# Altium footprint library Ale.PcbLib: 181 footprints (part 11 of 12)
Each footprint in its own frame and in the unit in brackets; x right, y up, seen from the top. Pads: shape width x height; smd on the part's side, far side on the other; paste and mask are expansions set on the pad; w line width, h text height; cw(c..) or ccw(c..) is an arc to the next point about the centre after c.
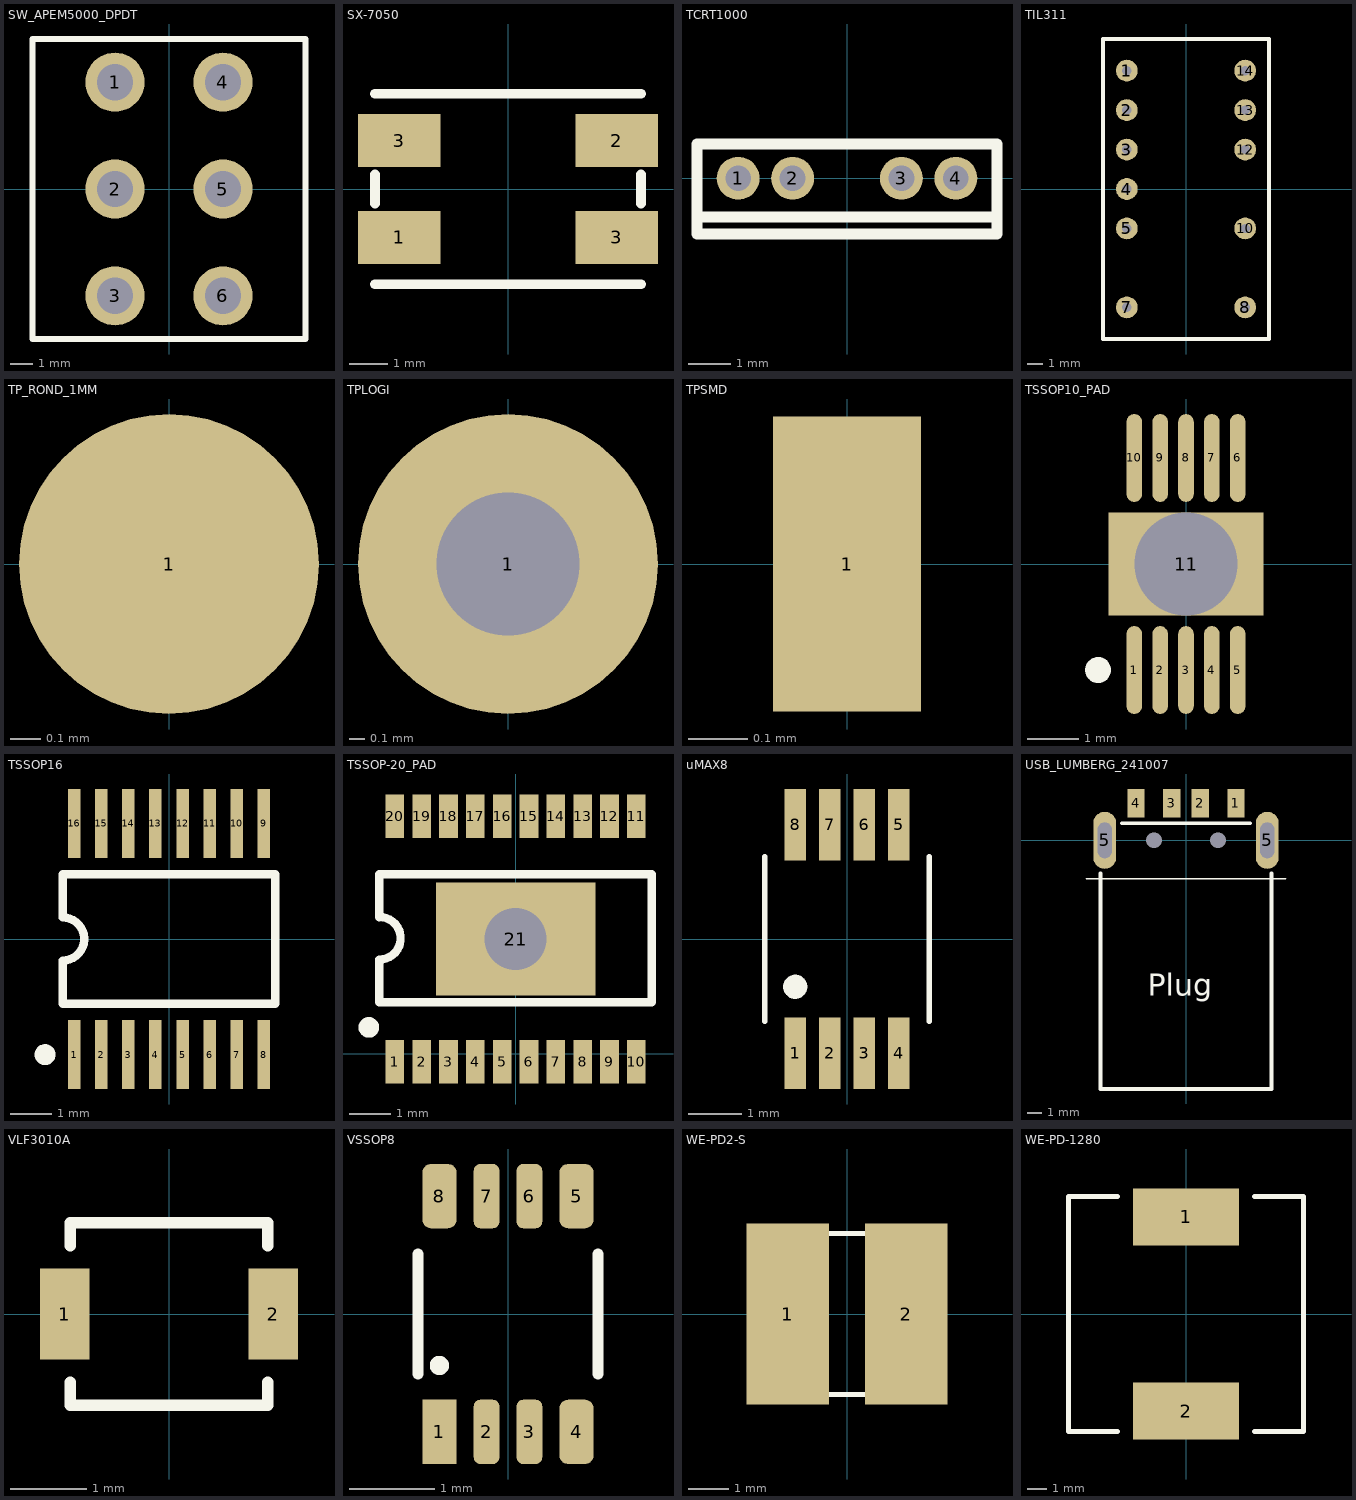
[diagram p10: the footprints below, top view; thin cyan lines are the x and y axes]

## SW_APEM5000_DPDT [mm] "APEM 5000 series Duap Pole, Dual Throw switches, 4.7 mm raster"
height 32.8
pads (6):
  round 2.6 hole 1.6: 1(-2.375,4.7) 2(-2.375,0) 3(-2.375,-4.7) 4(2.375,4.7) 5(2.375,0) 6(2.375,-4.7)
Top Overlay:
  lines w0.254: -6,-6.6 -6,6.6 6,6.6 6,-6.6 -6,-6.6
3D body: height 13.3, standoff 0, extent -6.127,-6.727 6.127,6.727
3D body: height 22.3, standoff 13.3, extent -3.174,-3.174 3.174,3.174
3D body: height 32.8, standoff 13.3, extent -1.499,-1.499 1.499,1.499

## SX-7050 [mil] "Siward SX-7050 SMD Crystal"
height 59.06
pads (4):
  rect 85x55 smd: 1(-112.5,-50) 2(112.5,50) 3(-112.5,50) 3(112.5,-50)
Top Overlay:
  lines w10: -137.5,-98.42 137.5,-98.42 ; -137.5,-15 -137.5,15 ; -137.5,98.42 137.5,98.42 ; 137.5,-15 137.5,15
3D body: height 59.06, standoff 0, extent -137.78,-98.41 137.78,98.41

## TCRT1000 [mm] "Reflective optical sensor with transistor output"
height 6.1
pads (4):
  round 1 hole 0.6: 1(-2.54,0) 2(-1.27,0) 3(1.27,0) 4(2.54,0)
Top Overlay:
  lines w0.254: -3.5,-0.9 3.5,-0.9 ; -3.5,-1.3 3.5,-1.3 3.5,0.8 -3.5,0.8 -3.5,-1.3

## TIL311 [mm] "TIL311 hexadecimal display with logic"
height 3.6
pads (11):
  round 1.4 hole 0.6: 1(-3.81,7.62) 2(-3.81,5.08) 3(-3.81,2.54) 4(-3.81,0) 5(-3.81,-2.54) 7(-3.81,-7.62) 8(3.81,-7.62) 10(3.81,-2.54) 12(3.81,2.54) 13(3.81,5.08) 14(3.81,7.62)
Top Overlay:
  lines w0.254: -5.335,-9.655 -5.335,9.655 5.335,9.655 5.335,-9.655 -5.335,-9.655
3D body: height 3.6, standoff 0, extent -5.334,-9.654 5.334,9.654

## TP_ROND_1MM [mm] "Test point rond, diam. 1 mm"
pads (1):
  round 1 smd: 1(0,0)

## TPLOGI [mm] "Douille logidule"
height 10
pads (1):
  round 2 hole 0.95: 1(0,0)

## TPSMD [mm] "Test point, SMD"
pads (1):
  rect 0.25x0.5 smd: 1(0,0)

## TSSOP10_PAD [mm] "TSSOP10 with pad soldering hole"
pads (11):
  oval 0.3x1.7 smd: 1(-1,-2.05) 2(-0.5,-2.05) 3(0,-2.05) 4(0.5,-2.05) 5(1,-2.05) 6(1,2.05) 7(0.5,2.05) 8(0,2.05) 9(-0.5,2.05) 10(-1,2.05)
  rect 3x2 hole 2: 11(0,0)
Top Overlay:
  circle w0.25: c-1.7,-2.05 r0.125
Mechanical 15:
  lines w0.1: -0.5,0 0.5,0 ; 0,-0.5 0,0.5
3D body: height 1.1, standoff 0.05, extent -1.6,-1.6 1.6,1.6

## TSSOP16 [mm] "Shrink Small Outline; 16 Leads; Body Width 4.4 mm; Pitch 0.65 mm"
height 1.1
pads (16):
  rect 0.3x1.65 smd: 1(-2.275,-2.775) 2(-1.625,-2.775) 3(-0.975,-2.775) 4(-0.325,-2.775) 5(0.325,-2.775) 6(0.975,-2.775) 7(1.625,-2.775) 8(2.275,-2.775) 9(2.275,2.775) 10(1.625,2.775) 11(0.975,2.775) 12(0.325,2.775) 13(-0.325,2.775) 14(-0.975,2.775) 15(-1.625,2.775) 16(-2.275,2.775)
Top Overlay:
  circle w0.25: c-2.975,-2.775 r0.125
  lines w0.2: -2.55,-1.55 2.55,-1.55 2.55,1.55 -2.55,1.55 -2.55,0.517 cw(c-2.55,0) -2.55,-0.517 -2.55,-1.55
3D body: height 1.1, standoff 0, extent -2.55,-2.15 2.55,2.15

## TSSOP-20_PAD [mm] "20-pin TSSOP with pad and soldering hole"
pads (21):
  rect 0.45x1.05 smd: 1(-2.926,-0.2) 2(-2.276,-0.2) 3(-1.626,-0.2) 4(-0.976,-0.2) 5(-0.326,-0.2) 6(0.324,-0.2) 7(0.974,-0.2) 8(1.624,-0.2) 9(2.274,-0.2) 10(2.924,-0.2) 11(2.924,5.75) 12(2.274,5.75) 13(1.624,5.75) 14(0.974,5.75) 15(0.324,5.75) 16(-0.326,5.75) 17(-0.976,5.75) 18(-1.626,5.75) 19(-2.276,5.75) 20(-2.926,5.75)
  rect 3.86x2.74 / inner rect 3.86x2.74 / far side round 2 hole 1.5: 21(0,2.775)
Top Overlay:
  circle w0.25: c-3.554,0.635 r0.125
  lines w0.2: -3.302,3.302 -3.302,4.335 ; -3.301,3.31 cw(c-3.301,2.793) -3.301,2.276 -3.301,1.243 3.299,1.243 3.299,4.343 -3.301,4.343

## uMAX8 [mm] "Maxim µMAX package, 8 pins"
height 0.95
pads (8):
  rect 0.4x1.35 smd: 1(-0.975,-2.15) 2(-0.325,-2.15) 3(0.325,-2.15) 4(0.975,-2.15) 5(0.975,2.15) 6(0.325,2.15) 7(-0.325,2.15) 8(-0.975,2.15)
Top Overlay:
  circle w0.254: c-0.975,-0.9 r0.1
  lines w0.1: -1.55,-1.55 -1.55,1.55 ; 1.55,-1.55 1.55,1.55
3D body: height 0.95, standoff 0, extent -1.549,-1.549 1.549,1.549

## USB_LUMBERG_241007 [mm] "Lumberg SMT USB Type A Plug (male)"
height 4.5
pads (8):
  round 0 hole 1.1: 0(-2.25,0) 0(2.25,0)
  rect 1.2x2 smd: 1(3.5,2.6) 2(1,2.6) 3(-1,2.6) 4(-3.5,2.6)
  oval 1.6x4 hole 1 slot 2.5 at 90 deg: 5(-5.7,0) 5(5.7,0)
Top Overlay:
  lines w0.127: -7,-2.7 7,-2.7
  lines w0.254: -6,-2.325 -6,-17.45 6,-17.45 6,-2.325 ; -4.5,1.2 4.5,1.2
  text "Plug" at -2.675,-10.9 h1.52

## VLF3010A [mm] "TDK VLF3010A Inductor Series"
height 1
pads (2):
  rect 0.65x1.2 smd: 1(-1.375,0) 2(1.375,0)
Top Overlay:
  lines w0.15: -1.3,-0.9 -1.3,-1.2 1.3,-1.2 1.3,-0.9 ; -1.3,0.9 -1.3,1.2 1.3,1.2 1.3,0.9
3D body: height 1, standoff 0, extent -1.4,-1.3 1.4,1.3

## VSSOP8 [mm] "VSSOP package (SOT765-1), 8 pins"
height 1
pads (8):
  rect 0.4x0.75 smd: 1(-0.8,-1.375)
  rrect50% 0.3x0.75 smd: 2(-0.25,-1.375) 3(0.25,-1.375) 6(0.25,1.375) 7(-0.25,1.375)
  rrect50% 0.4x0.75 smd: 4(0.8,-1.375) 5(0.8,1.375) 8(-0.8,1.375)
Top Overlay:
  circle w0.125: c-0.8,-0.6 r0.05
  lines w0.125: -1.05,-0.7 -1.05,0.7 ; 1.05,-0.7 1.05,0.7
3D body: height 1, standoff 0, extent -1.049,-1.199 1.049,1.199

## WE-PD2-S [mm] "Power Choke (Würth Elektronik), S size"
height 3.2
pads (2):
  rect 2.05x4.5 smd: 1(-1.475,0) 2(1.475,0)
Top Overlay:
  lines w0.127: -0.5,-2 0.5,-2 ; -0.5,2 0.5,2
3D body: height 3.2, standoff 0, extent -2.25,-2 2.25,2

## WE-PD-1280 [mm] "Power Choke (Würth Elektronik)"
height 8
pads (2):
  rect 5.4x2.9 smd: 1(0,4.95) 2(0,-4.95)
Top Overlay:
  lines w0.254: -3.5,-6 -6,-6 -6,6 -3.5,6 ; 3.5,-6 6,-6 6,6 3.5,6
3D body: height 8, standoff 0, extent -5.999,-5.999 5.999,5.999